# Altium footprint library Switches_right_angled.PcbLib: 4 footprints
Each footprint in its own frame and in the unit in brackets; x right, y up, seen from the top. Pads: shape width x height; smd on the part's side, far side on the other; paste and mask are expansions set on the pad; w line width, h text height; cw(c..) or ccw(c..) is an arc to the next point about the centre after c.
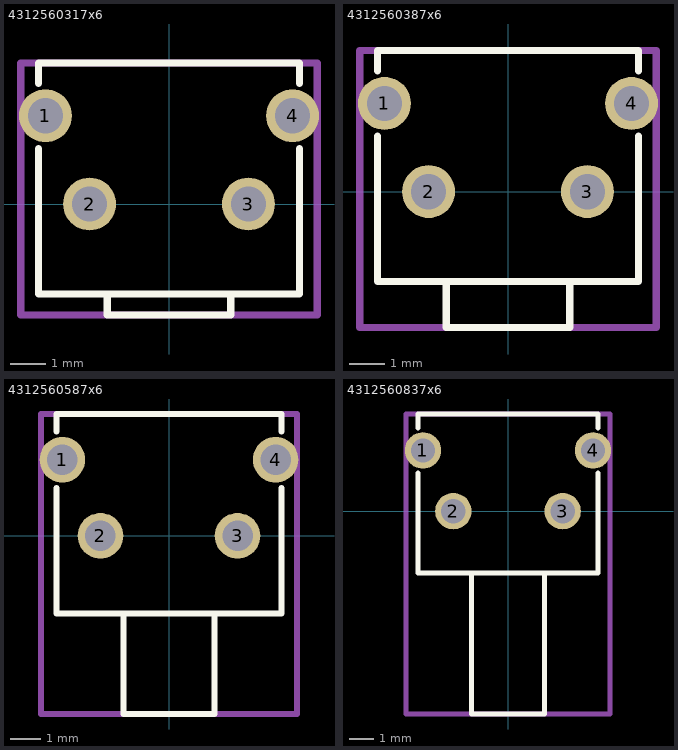
[diagram p0: the footprints below, top view; thin cyan lines are the x and y axes]

## 4312560317x6 [mm] "6x6mm right angle Tact Switch with ground terminal, THT version"
height 7.2
pads (4):
  round 1.5 hole 1: 1(-3.5,2.5) 2(-2.25,0) 3(2.25,0) 4(3.5,2.5)
Top Overlay:
  lines w0.2: -3.7,1.57 -3.7,-2.55 3.7,-2.55 3.7,1.57 ; -3.7,3.42 -3.7,4 3.7,4 3.7,3.42 ; -1.75,-2.55 -1.75,-3.15 1.75,-3.15 1.75,-2.55
Mechanical 13:
  lines w0.2: -4.2,-3.15 4.2,-3.15 4.2,4 -4.2,4 -4.2,-3.15
3D body "4312560317x6.stp": height 7.25, standoff -3.45, extent -4.2,-3.15 4.2,4

## 4312560387x6 [mm] "6x6mm right angle Tact Switch with ground terminal, THT version"
height 7.2
pads (4):
  round 1.5 hole 1: 1(-3.5,2.5) 2(-2.25,0) 3(2.25,0) 4(3.5,2.5)
Top Overlay:
  lines w0.2: -3.7,1.57 -3.7,-2.55 3.7,-2.55 3.7,1.57 ; -3.7,3.42 -3.7,4 3.7,4 3.7,3.42 ; -1.75,-2.55 -1.75,-3.85 1.75,-3.85 1.75,-2.55
Mechanical 13:
  lines w0.2: -4.2,-3.85 -4.2,4 4.2,4 4.2,-3.85 -4.2,-3.85
3D body "4312560387x6.stp": height 7.25, standoff -3.45, extent -4.2,-3.85 4.2,4

## 4312560587x6 [mm] "6x6mm right angle Tact Switch with ground terminal, THT version"
height 7.2
pads (4):
  round 1.5 hole 1: 1(-3.5,2.5) 2(-2.25,0) 3(2.25,0) 4(3.5,2.5)
Top Overlay:
  lines w0.2: -3.7,1.57 -3.7,-2.55 3.7,-2.55 3.7,1.57 ; -3.7,3.42 -3.7,4 3.7,4 3.7,3.42 ; -1.5,-2.55 -1.5,-5.85 1.5,-5.85 1.5,-2.55
Mechanical 13:
  lines w0.2: -4.2,-5.85 -4.2,4 4.2,4 4.2,-5.85 -4.2,-5.85
3D body "4312560587x6.stp": height 7.25, standoff -3.45, extent -4.2,-5.85 4.2,4

## 4312560837x6 [mm] "6x6mm right angle Tact Switch with ground terminal, THT version"
height 7.2
pads (4):
  round 1.5 hole 1: 1(-3.5,2.5) 2(-2.25,0) 3(2.25,0) 4(3.5,2.5)
Top Overlay:
  lines w0.2: -3.7,1.57 -3.7,-2.55 3.7,-2.55 3.7,1.57 ; -3.7,3.42 -3.7,4 3.7,4 3.7,3.42 ; -1.5,-2.55 -1.5,-8.35 1.5,-8.35 1.5,-2.55
Mechanical 13:
  lines w0.2: -4.2,-8.35 -4.2,4 4.2,4 4.2,-8.35 -4.2,-8.35
3D body "4312560837x6.stp": height 7.25, standoff -3.45, extent -4.2,-8.35 4.2,4